# Altium footprint library VSSOP_8.PcbLib: 1 footprints
Each footprint in its own frame and in the unit in brackets; x right, y up, seen from the top. Pads: shape width x height; smd on the part's side, far side on the other; paste and mask are expansions set on the pad; w line width, h text height; cw(c..) or ccw(c..) is an arc to the next point about the centre after c.
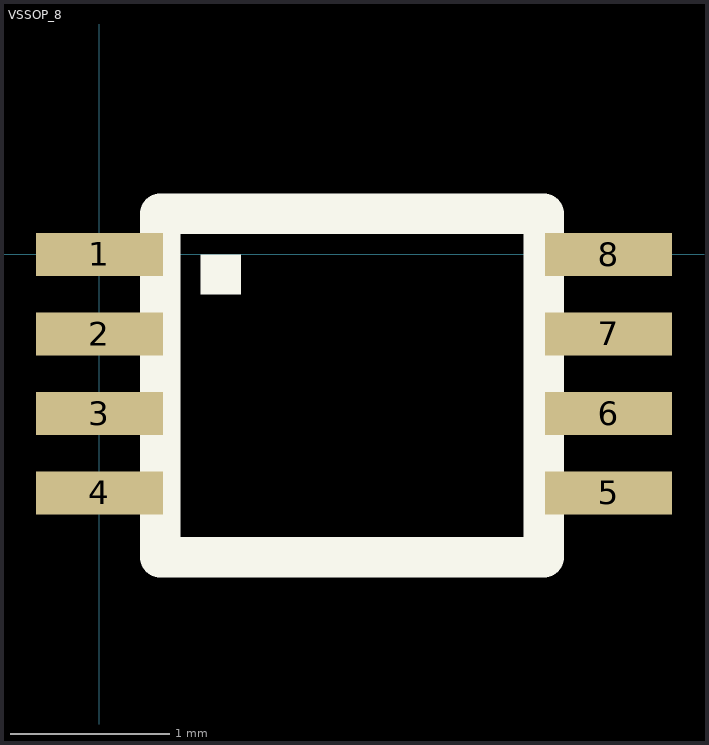
[diagram p0: the footprint, top view; thin cyan lines are the x and y axes]

## VSSOP_8 [mm]
pads (8):
  rect 0.8x0.27 smd: 1(0,0) 2(0,-0.5) 3(0,-1) 4(0,-1.5) 5(3.2,-1.5) 6(3.2,-1) 7(3.2,-0.5) 8(3.2,0)
Top Overlay:
  rectangle: 0.635,-0.254 0.889,0
  lines w0.254: 0.381,-1.905 0.381,0.254 2.794,0.254 2.794,-1.905 0.381,-1.905